# Altium footprint library 3-Pcblib_Inductor.PcbLib: 28 footprints (part 2 of 2)
Each footprint in its own frame and in the unit in brackets; x right, y up, seen from the top. Pads: shape width x height; smd on the part's side, far side on the other; paste and mask are expansions set on the pad; w line width, h text height; cw(c..) or ccw(c..) is an arc to the next point about the centre after c.
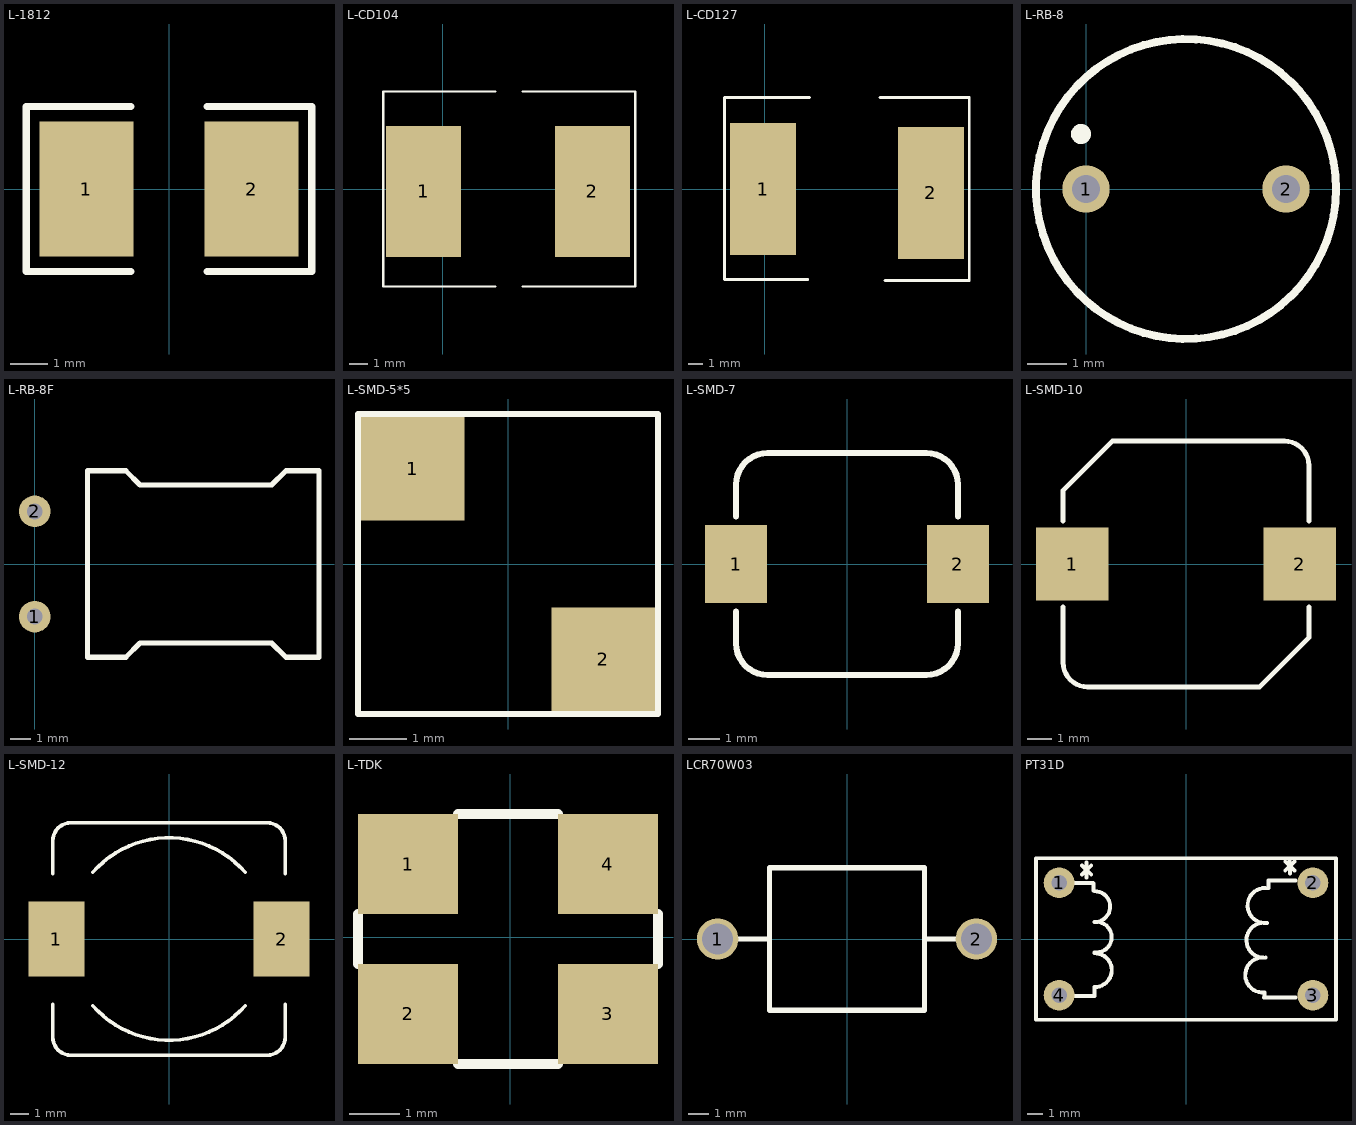
[diagram p1: the footprints below, top view; thin cyan lines are the x and y axes]

## L-1812 [mm]
height 1
pads (2):
  rect 2.5x3.6 smd: 1(-2.2,0) 2(2.2,0)
Top Overlay:
  lines w0.2: -1.016,-2.2 -3.81,-2.2 -3.81,2.2 -1.016,2.2 ; 1.016,-2.2 3.81,-2.2 3.81,2.2 1.016,2.2
3D body: height 2.6, standoff 0, extent -2.339,-1.512 2.261,1.688

## L-CD104 [mm]
pads (2):
  rect 4x7 smd: 1(-1.016,-0.127) 2(8.001,-0.127)
Top Overlay:
  lines w0.127: -3.175,-5.207 2.825,-5.207 ; -3.175,-5.193 -3.175,5.207 2.825,5.207 ; 4.287,-5.207 10.287,-5.207 10.287,5.193 ; 4.287,5.207 10.287,5.207
3D body: height 4, standoff 0, extent -1.517,-5.22 8.883,5.08

## L-CD127 [mm]
pads (2):
  rect 4.5x9 smd: 1(-0.127,0) 2(11.303,-0.254)
Top Overlay:
  lines w0.2: -2.749,-6.152 2.915,-6.152 ; -2.749,6.248 3.047,6.248 ; 7.821,6.247 13.913,6.247 ; 8.173,-6.228 13.913,-6.228
  lines w0.203: -2.749,-6.152 -2.749,6.248 ; 13.913,-6.228 13.913,6.247
3D body: height 8, standoff 0, extent -0.662,-6.15 11.838,6.35

## L-RB-8 [mm] "Inductor"
pads (2):
  round 1.2 hole 0.7: 1(0,0) 2(5.08,0)
Top Overlay:
  circle w0.254: c-0.127,1.397 r0.127
  circle w0.2: c2.54,0 r3.81
3D body: height 11.2, standoff -4.8, extent -1.56,-4.136 6.64,4.064

## L-RB-8F [mil]
height 472.44
pads (2):
  round 60 hole 30: 1(0,-100) 2(0,100)
Top Overlay:
  lines w10: 100,-177.17 172.83,-177.17 200,-150 450,-150 477.17,-177.17 540,-177.17 540,177.17 477.17,177.17 450,150 200,150 172.83,177.17 100,177.17 100,-177.17
3D body: height 375.98, standoff 1.97, extent -23.09,-192.46 449.35,181.56

## L-SMD-5*5 [mm]
pads (2):
  rect 1.8x1.8 smd: 1(-1.651,1.651) 2(1.651,-1.651)
Top Overlay:
  lines w0.1: -2.6,-2.6 2.6,-2.6 2.6,2.6 -2.6,2.6 -2.6,-2.6

## L-SMD-7 [mm] "贴片电感7*7"
pads (2):
  rect 2x2.5 smd: 1(-3.556,0) 2(3.556,0)
Top Overlay:
  lines w0.2: -3.556,-1.524 -3.556,-2.54 ccw(c-2.54,-2.54) -2.54,-3.556 2.54,-3.556 ccw(c2.54,-2.54) 3.556,-2.54 3.556,-1.524 ; -3.556,1.524 -3.556,2.54 cw(c-2.54,2.54) -2.54,3.556 2.54,3.556 cw(c2.54,2.54) 3.556,2.54 3.556,1.524
3D body: height 4.5, standoff -0.03, extent -3.556,-3.5 3.494,3.5

## L-SMD-10 [mm] "贴片电感10*10"
pads (2):
  rect 3x3 smd: 1(-4.699,0) 2(4.699,0)
Top Overlay:
  lines w0.2: -5.08,-1.778 -5.08,-4.064 ccw(c-4.064,-4.064) -4.064,-5.08 3.048,-5.08 5.08,-3.048 5.08,-1.778 ; -5.08,1.778 -5.08,3.048 -3.048,5.08 4.064,5.08 cw(c4.064,4.064) 5.08,4.064 5.08,1.778
3D body: height 4, standoff 0, extent -5.461,-5.207 4.939,5.093

## L-SMD-12 [mm] "贴片电感12*12"
height 4
pads (2):
  rect 3x4 smd: 1(-6,0) 2(6,0)
Top Overlay:
  lines w0.2: -6.2,-3.475 -6.2,-5.23 ccw(c-5.23,-5.23) -5.23,-6.2 5.23,-6.2 ccw(c5.23,-5.23) 6.2,-5.23 6.2,-3.475 ; -6.2,3.475 -6.2,5.23 cw(c-5.23,5.23) -5.23,6.2 5.23,6.2 cw(c5.23,5.23) 6.2,5.23 6.2,3.475 ; -4.064,-3.556 ccw(c0,0) 4.064,-3.556 ; -4.064,3.556 cw(c0,0) 4.064,3.556
3D body: height 8, standoff 0, extent -6.277,-6.25 6.223,6.25

## L-TDK [mm]
height 10
pads (4):
  rect 2x2 smd: 1(-2.048,1.46) 2(-2.048,-1.54) 3(1.952,-1.54) 4(1.952,1.46)
Top Overlay:
  lines w0.2: -3.048,-0.54 -3.048,0.46 ; -1.048,-2.54 0.952,-2.54 ; -1.048,2.46 0.952,2.46 ; 2.952,-0.54 2.952,0.46
3D body: height 3, standoff 0, extent -2.023,-1.93 2.277,1.27

## LCR70W03 [mil]
height 47.24
pads (2):
  round 80 hole 60: 1(-250,0) 2(250,0)
Top Overlay:
  lines w10: -210,0 -150,0 ; 150,0 210,0 ; -150,-137.8 150,-137.8 150,137.8 -150,137.8 -150,-137.8
3D body: height 314.96, standoff -68.36, extent -268.68,-157.25 270.69,157.25

## PT31D [mm]
pads (4):
  round 2 hole 1: 1(-8.25,3.65) 2(8.25,3.65) 3(8.25,-3.65) 4(-8.25,-3.65)
Top Overlay:
  region: -0.45,-2.75
  region: -0.35,-4.35
  lines w0.254: -8.25,3.65 -6.05,3.65 ; -7.91,-3.716 -5.964,-3.716 -5.959,-3.711 -5.959,-3.121 ccw(c-5.927,-2.021) -5.964,-0.922 ; -6.758,4.186 -6.158,4.786 ; -6.758,4.786 -6.158,4.186 ; -6.458,3.986 -6.472,4.412 -6.472,4.912 -6.458,4.986 ; -6.003,3.142 -6.003,3.603 ; -5.961,3.109 cw(c-5.928,2.109) -5.964,1.11 cw(c-5.835,0.118) -5.953,-0.875 ; 5.08,-3.81 7.112,-3.81 ; 5.105,-3.785 5.105,-3.474 cw(c4.992,-2.34) 5.182,-1.216 cw(c5.068,-0.081) 5.258,1.043 cw(c5.144,2.178) 5.334,3.302 ; 5.352,3.32 5.352,3.81 7.112,3.81 ; 6.45,4.44 7.05,5.04 ; 6.45,5.04 7.05,4.44 ; 6.75,4.24 6.736,4.666 6.736,5.166 6.75,5.24 ; -9.75,-5.25 9.75,-5.25 9.75,5.25 -9.75,5.25 -9.75,-5.25